# Altium schematic symbol library opo_general.SchLib: 49 symbols
Pins are listed as number, name and electrical type; pins without a type are passive.

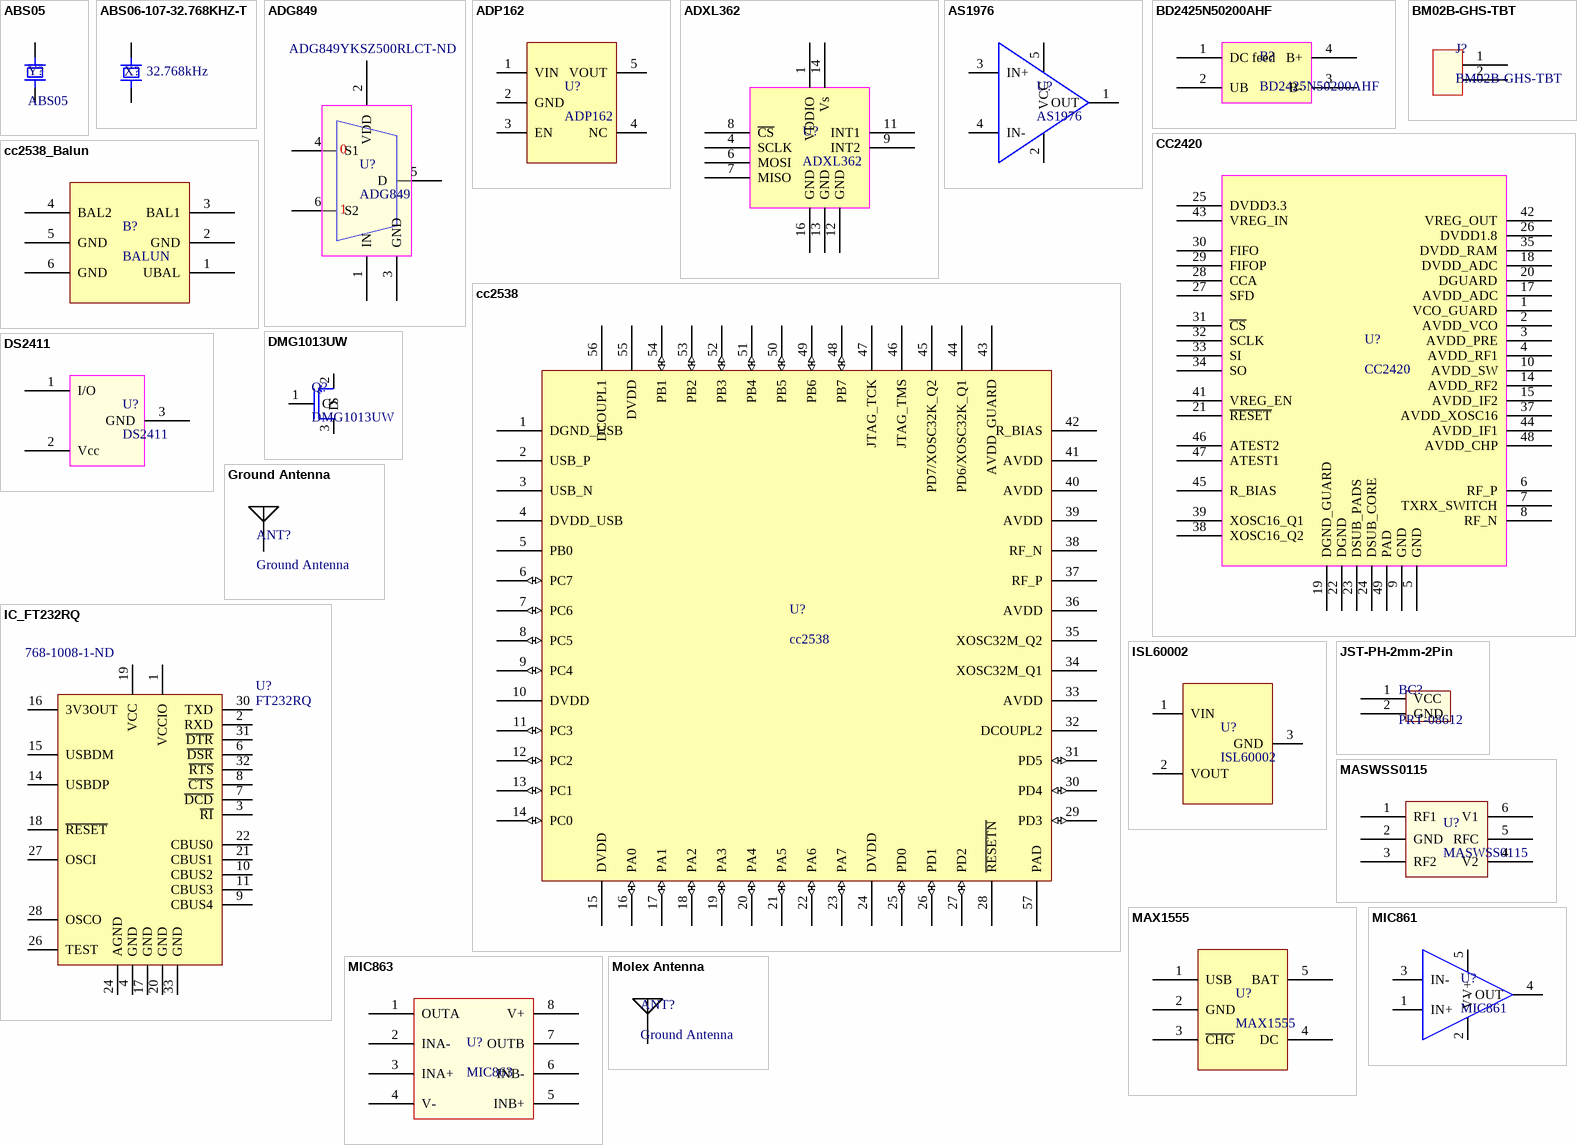
[diagram p0: symbols ABS05 to Molex Antenna]

## ABS05
designator Y?
32768 Hz SMD Low profile crystal; Supplier 1: Digi-Key; Supplier Part Number 1: 535-11899-1-ND
footprint ABS05 (ABS05 Crystal)
pins: 1, 2

## ABS06-107-32.768KHZ-T
designator X?, comment value 32.768kHz  (hidden comment: 32.768 kHz crystal)
32.768 0805 SMD crystal; Mfr: Abracon; Mfr Part Number: ABS06-107-32.768KHZ-T; Supplier 1: Digikey; Supplier Part Number 1: 535-12373-1-ND
footprint ABS06-107-32.768KHZ-T
pins: 1, 2

## ADG849
designator U?  Supplier Part Number 1: ADG849YKSZ500RLCT-ND
0.5 Ω SPDT/2:1 Mux in SC70; Supplier 1: Digi-Key
footprint SC70-6
pins: 1 IN, 2 VDD, 3 GND, 4 S1, 5 D, 6 S2
text: 0

## ADP162
designator U?
IC REG LDO 3.3V 0.15A TSOT23-5; Supplier 1: Digi-Key; Supplier Part Number 1: ADP162AUJZ-3.3-R7CT-ND
footprint TSOT23-5 (SOT23, 6-Leads, Body 3.0x2.9mm (max), Pitch 0.95mm, IPC Medium Density)
pins: 1 VIN, 2 GND, 3 EN, 4 NC, 5 VOUT

## ADXL362
designator U?
Micropower, 3-Axis, ±2 g/±4 g/±8 g  Digital Output MEMS Accelerometer; Supplier 1: Digi-Key; Supplier Part Number 1: ADXL362BCCZ-RL7CT-ND
footprint LGA_CC-16-4
pins: 1 VDDIO, 4 SCLK, 6 MOSI, 7 MISO, 8 ~{CS}, 9 INT2, 11 INT1, 12 GND, 13 GND, 14 Vs, 16 GND

## AS1976
designator U?
IC COMPARATOR PUSH/PULL SOT23-5; Supplier 1: Digi-Key; Supplier Part Number 1: AS1976-TCT-ND
footprint SOT23-5 (SOT23, 5-Leads, Body 2.9x1.6mm, Pitch 0.95mm, Lead Span 2.8mm, IPC High Density)
pins: 1 OUT, 2 VEE, 3 IN+, 4 IN-, 5 VCC

## BD2425N50200AHF
designator B?
Ultra Low Profile 0404 Balun   50Ω to 200Ω Balanced; Supplier 1: Digi-Key; Supplier Part Number 1: 1173-1063-1-ND
footprint BD2425N50200AHF
pins: 1 DC feed, 2 UB, 3 B-, 4 B+

## BM02B-GHS-TBT
designator J?
GH housing, 1.25 mm pitch, 2 positions; Supplier 1: Digi-Key; Supplier Part Number 1: 455-1578-1-ND
footprint JST GH series (JST GH series, 2 positions)
pins: 1, 2

## CC2420
designator U?
2.4 GHz IEEE 802.15.4 / ZigBee-ready RF Transceiver; Supplier 1: Digi-Key; Supplier Part Number 1: 296-19585-1-ND
footprint QFN50P700X700X100_HS-49N (QFN, 48-Leads, Body 7.00x7.00mm, Pitch 0.50mm, Thermal Pad 5.15x5.15mm, IPC Medium Density)
pins: 1 VCO_GUARD, 2 AVDD_VCO, 3 AVDD_PRE, 4 AVDD_RF1, 5 GND, 6 RF_P, 7 TXRX_SWITCH, 8 RF_N, 9 GND, 10 AVDD_SW, 14 AVDD_RF2, 15 AVDD_IF2, 17 AVDD_ADC, 18 DVDD_ADC, 19 DGND_GUARD, 20 DGUARD, 21 ~{RESET}, 22 DGND, 23 DSUB_PADS, 24 DSUB_CORE, 25 DVDD3.3, 26 DVDD1.8, 27 SFD, 28 CCA, 29 FIFOP, 30 FIFO, 31 ~{CS}, 32 SCLK, 33 SI, 34 SO, 35 DVDD_RAM, 37 AVDD_XOSC16, 38 XOSC16_Q2, 39 XOSC16_Q1, 41 VREG_EN, 42 VREG_OUT, 43 VREG_IN, 44 AVDD_IF1, 45 R_BIAS, 46 ATEST2, 47 ATEST1, 48 AVDD_CHP, 49 PAD

## cc2538
designator U?
cc2538 MCU/802.15.4 radio; Supplier 1: Digikey; Supplier Part Number 1: 296-35797-1-ND
footprint QFN50P800X800X100_HS-57N (QFN, 56-Leads, Body 8.00x8.00mm, Pitch 0.50mm, Thermal Pad 6.60x6.60mm, IPC Medium Density)
pins: 1 DGND_USB, 2 USB_P, 3 USB_N, 4 DVDD_USB, 5 PB0, 6 PC7 (io), 7 PC6 (io), 8 PC5 (io), 9 PC4 (io), 10 DVDD (power), 11 PC3 (io), 12 PC2 (io), 13 PC1 (io), 14 PC0 (io), 15 DVDD (power), 16 PA0 (io), 17 PA1 (io), 18 PA2 (io), 19 PA3 (io), 20 PA4 (io), 21 PA5 (io), 22 PA6 (io), 23 PA7 (io), 24 DVDD (power), 25 PD0 (io), 26 PD1 (io), 27 PD2 (io), 28 ~{RESETN}, 29 PD3 (io), 30 PD4 (io), 31 PD5 (io), 32 DCOUPL2 (power), 33 AVDD (power), 34 XOSC32M_Q1, 35 XOSC32M_Q2, 36 AVDD (power), 37 RF_P, 38 RF_N, 39 AVDD (power), 40 AVDD (power), 41 AVDD (power), 42 R_BIAS, 43 AVDD_GUARD (power), 44 PD6/XOSC32K_Q1, 45 PD7/XOSC32K_Q2, 46 JTAG_TMS, 47 JTAG_TCK, 48 PB7 (io), 49 PB6 (io), 50 PB5 (io), 51 PB4 (io), 52 PB3 (io), 53 PB2 (io), 54 PB1 (io), 55 DVDD (power), 56 DCOUPL1 (power), 57 PAD

## cc2538_Balun
designator B?, comment BALUN
Johanson CC253X Balun; Mfr: Johanson Technology; Mfr Part Number: 2450BM15A0002; Supplier 1: Digikey; Supplier Part Number 1: 712-1536-1-ND
footprint 2450BM15A0002 (Chip Array, Flat, 6-Leads, Pitch 0.65mm,  Body 2.00x1.25mm,  IPC Medium Density)
pins: 1 UBAL, 2 GND, 3 BAL1, 4 BAL2, 5 GND, 6 GND

## DMG1013UW
designator Q?
P-CHANNEL ENHANCEMENT MODE MOSFET; Supplier 1: Digi-Key; Supplier Part Number 1: DMG1013UW-7DICT-ND
footprint SC70-3
pins: 1 G, 2 S, 3 D

## DS2411
designator U?
Silicon Serial Number with VCC Input; Supplier 1: Digi-Key; Supplier Part Number 1: DS2411R+CT-ND
footprint SOT23-3N (SOT23, 3-Leads, Body 2.9x1.3mm, Pitch 0.95mm, Lead Span 2.5mm, IPC Medium Density)
pins: 1 I/O, 2 Vcc, 3 GND

## Ground Antenna
designator ANT?
2.4GHz Surface Mount Device (SMD) On Ground Antenna, 50 Ohms; Supplier 1: RichardsonRFPD; Supplier Part Number 1: FR05-S1-N-0102B
footprint Chip Antenna (FR05-S1-N-0-102)
pins: 1

## IC_FT232RQ
designator U?, comment FT232RQ  Supplier Part Number 1: 768-1008-1-ND
FT232R USB UART; Manufacturer: *; Note: *; ManufacturerPartNo: *; Supplier 1: Digi-Key
footprint QFN-32
pins: 1 VCCIO, 2 RXD, 3 ~{RI}, 4 GND, 6 ~{DSR}, 7 ~{DCD}, 8 ~{CTS}, 9 CBUS4, 10 CBUS2, 11 CBUS3, 14 USBDP, 15 USBDM, 16 3V3OUT, 17 GND, 18 ~{RESET}, 19 VCC, 20 GND, 21 CBUS1, 22 CBUS0, 24 AGND, 26 TEST, 27 OSCI, 28 OSCO, 30 TXD, 31 ~{DTR}, 32 ~{RTS}, 33 GND
2 alternate drawings of the same symbol

## ISL60002
designator U?
IC VREF SERIES PREC SOT-23-3; Supplier 1: Digi-Key; Supplier Part Number 1: ISL60002DIH310Z-TKCT-ND
footprint SOT23-3N (SOT23, 3-Leads, Body 2.9x1.3mm, Pitch 0.95mm, Lead Span 2.5mm, IPC Medium Density)
pins: 1 VIN, 2 VOUT, 3 GND

## JST-PH-2mm-2Pin
designator BC?, comment PRT-08612
2-pin JST-PH 2mm Battery Connector; Supplier 1: Sparkfun; Supplier Part Number 1: PRT-08612
footprint JST PH 2PIN
pins: 1 VCC, 2 GND, 3 hidden, 4 hidden

## MASWSS0115
designator U?
Rf Switch; Mfr: M/A-Com; Mfr Part Number: MASWSS0115TR-3000; Supplier 1: Digikey; Supplier Part Number 1: 1465-1373-1-ND
footprint SC70-6
pins: 1 RF1, 2 GND, 3 RF2, 4 V2, 5 RFC, 6 V1

## MAX1555
designator U?
3 Dual-Input USB/AC Adapter 1-Cell Li+  Battery Chargers; Supplier 1: Digi-Key; Supplier Part Number 1: MAX1555EZK+TTR-ND
footprint SOT23-5 (SOT23, 5-Leads, Body 2.9x1.6mm, Pitch 0.95mm, Lead Span 2.8mm, IPC High Density)
pins: 1 USB, 2 GND, 3 ~{CHG}, 4 DC, 5 BAT

## MIC861
designator U?
IC OPAMP 400KHZ 2.7V ULT LP SC70; Supplier 1: Digi-Key; Supplier Part Number 1: 576-2932-1-ND
footprint SC70-5
pins: 1 IN+, 2 V-, 3 IN-, 4 OUT, 5 V+

## MIC863
designator U?
Dual Ultra Low Power Op Amp in SOT23-8; Supplier 1: Digi-Key; Supplier Part Number 1: 576-2934-1-ND
footprint TSOP65P280X145-8N (TSOP, 8-Leads, Body 2.90x1.60mm, Pitch 0.65mm, IPC Medium Density)
pins: 1 OUTA, 2 INA-, 3 INA+, 4 V-, 5 INB+, 6 INB-, 7 OUTB, 8 V+

## Molex Antenna
designator ANT?, comment Ground Antenna
Molex 2.4 GHz SMD On-Ground Antenna; Supplier 1: Digikey; Supplier Part Number 1: WM4893CT-ND
footprint SMD Ground Antenna (0479480001)
pins: 1

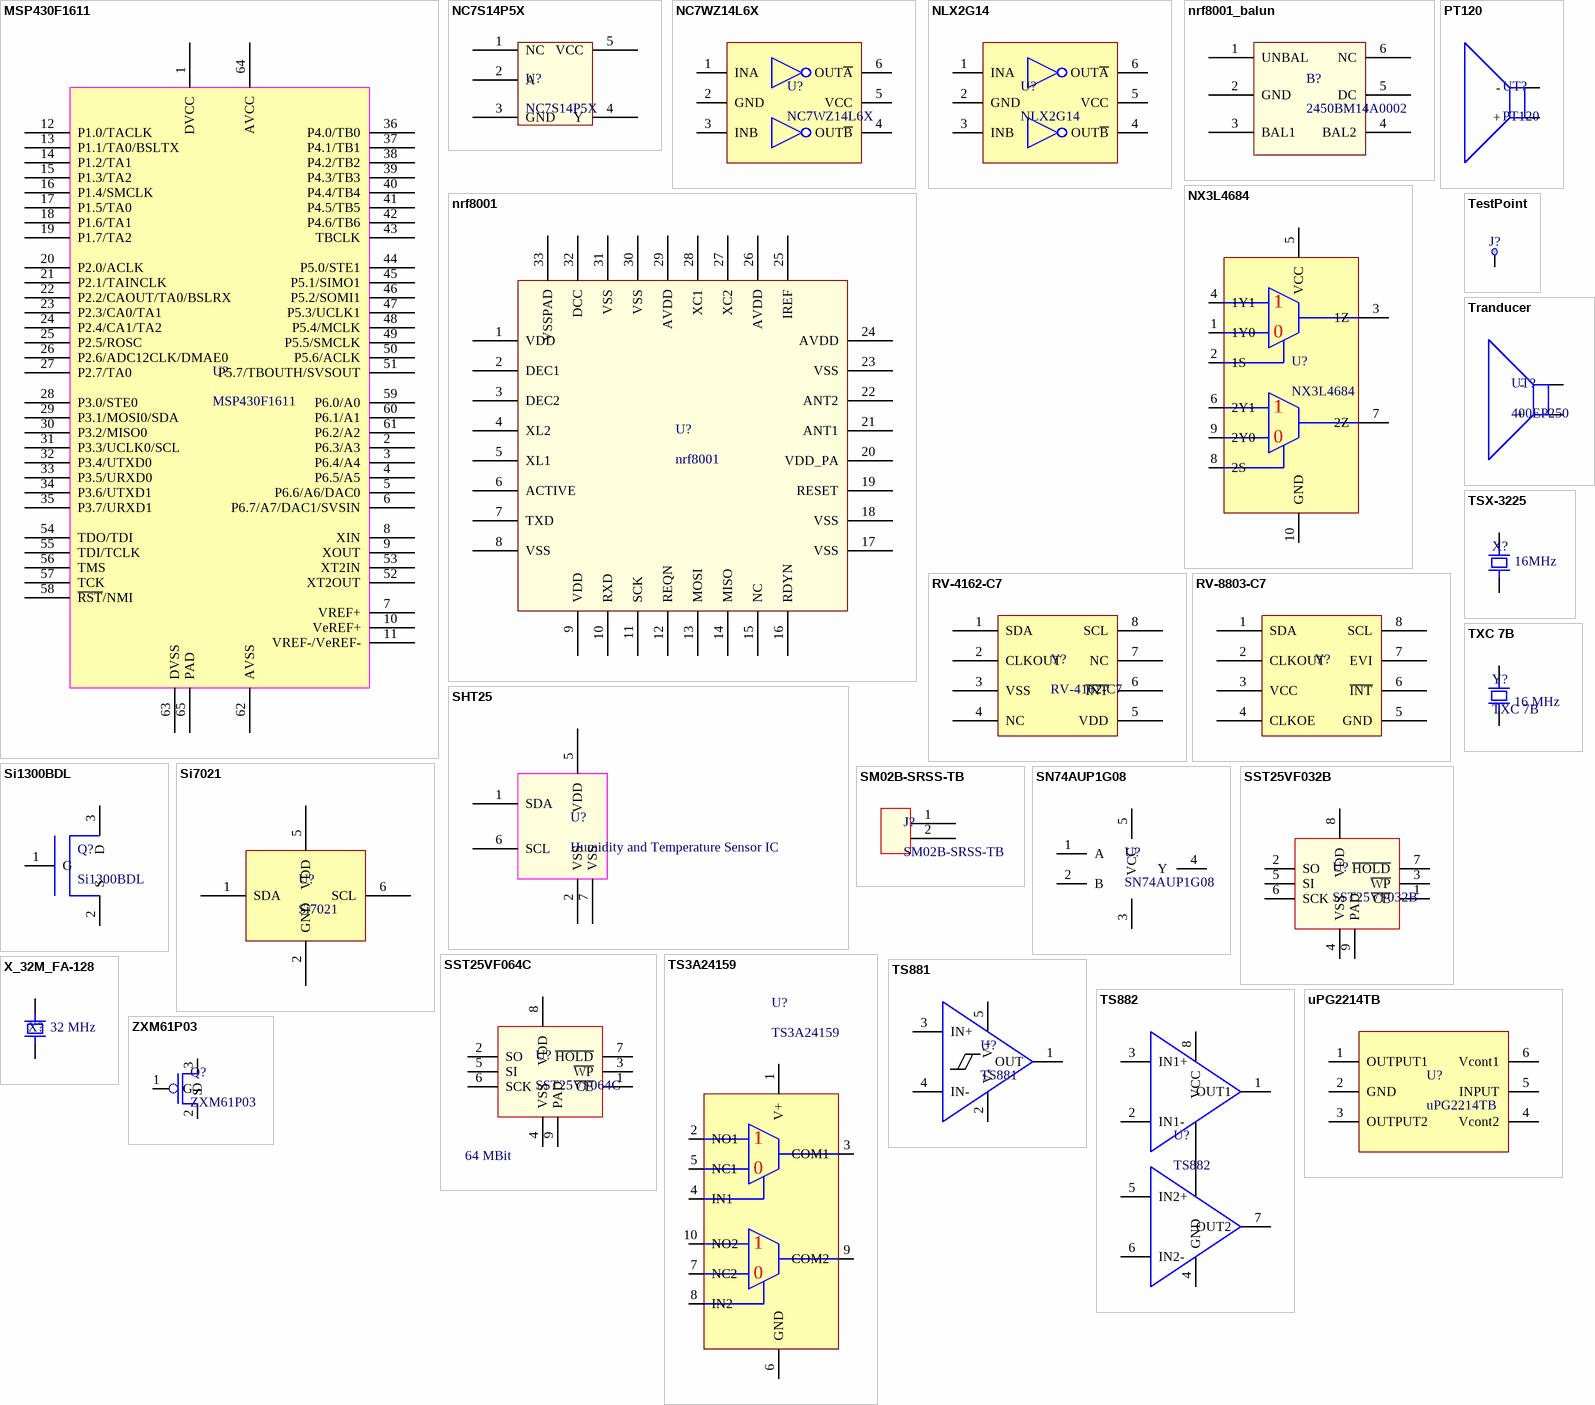
[diagram p1: symbols MSP430F1611 to ZXM61P03]

## MSP430F1611
designator U?
MIXED SIGNAL MICROCONTROLLER; Supplier 1: Digi-Key; Supplier Part Number 1: 296-18102-1-ND
footprint QFN50P900X900X90_HS-65N (QFN, 64-Leads, Body 9.00x9.00mm, Pitch 0.50mm, Thermal Pad 4.70x4.70mm, IPC Medium Density)
pins: 1 DVCC, 2 P6.3/A3, 3 P6.4/A4, 4 P6.5/A5, 5 P6.6/A6/DAC0, 6 P6.7/A7/DAC1/SVSIN, 7 VREF+, 8 XIN, 9 XOUT, 10 VeREF+, 11 VREF-/VeREF-, 12 P1.0/TACLK, 13 P1.1/TA0/BSLTX, 14 P1.2/TA1, 15 P1.3/TA2, 16 P1.4/SMCLK, 17 P1.5/TA0, 18 P1.6/TA1, 19 P1.7/TA2, 20 P2.0/ACLK, 21 P2.1/TAINCLK, 22 P2.2/CAOUT/TA0/BSLRX, 23 P2.3/CA0/TA1, 24 P2.4/CA1/TA2, 25 P2.5/ROSC, 26 P2.6/ADC12CLK/DMAE0, 27 P2.7/TA0, 28 P3.0/STE0, 29 P3.1/MOSI0/SDA, 30 P3.2/MISO0, 31 P3.3/UCLK0/SCL, 32 P3.4/UTXD0, 33 P3.5/URXD0, 34 P3.6/UTXD1, 35 P3.7/URXD1, 36 P4.0/TB0, 37 P4.1/TB1, 38 P4.2/TB2, 39 P4.3/TB3, 40 P4.4/TB4, 41 P4.5/TB5, 42 P4.6/TB6, 43 TBCLK, 44 P5.0/STE1, 45 P5.1/SIMO1, 46 P5.2/SOMI1, 47 P5.3/UCLK1, 48 P5.4/MCLK, 49 P5.5/SMCLK, 50 P5.6/ACLK, 51 P5.7/TBOUTH/SVSOUT, 52 XT2OUT, 53 XT2IN, 54 TDO/TDI, 55 TDI/TCLK, 56 TMS, 57 TCK, 58 ~{RST}/NMI, 59 P6.0/A0, 60 P6.1/A1, 61 P6.2/A2, 62 AVSS, 63 DVSS, 64 AVCC, 65 PAD

## NC7S14P5X
designator U?
Single Inverter; Mfr: Fairchild; Mfr Part Number: NC7S14P5X; Supplier 1: Digikey; Supplier Part Number 1: NC7S14P5XDKR-ND
footprint SC70-5
pins: 1 NC, 2 A, 3 GND, 4 Y, 5 VCC

## NC7WZ14L6X
designator U?
1 uA supply current, 50 mA output current, Dual inverter; Mfr: Fairchild Semiconductor; Supplier 1: Digikey; Supplier Part Number 1: NC7WZ14L6XFSCT-ND; Mfr Part Number: NC7WZ14L6X
footprint NC7WZ14L6X
pins: 1 INA, 2 GND, 3 INB, 4 OUT~{B}, 5 VCC, 6 OUT~{A}

## NLX2G14
designator U?
IC INVERTER DUAL SCHMTRIG ULLGA6; Supplier 1: Mouser; Supplier Part Number 1: 863-NLX2G14BMX1TCG
footprint ULLGA6, 1.2 x 1.0, .4P
pins: 1 INA, 2 GND, 3 INB, 4 OUT~{B}, 5 VCC, 6 OUT~{A}

## nrf8001
designator U?
nrf8001 Bluetooth SPI module; Supplier 1: Digikey; Supplier Part Number 1: 1490-1026-ND
footprint QFN50P500X500X90_HS-33N (QFN, 32-Leads, Body 5.00x5.00mm, Pitch 0.50mm, Thermal Pad 3.60x3.60mm, IPC Medium Density)
pins: 1 VDD, 2 DEC1, 3 DEC2, 4 XL2, 5 XL1, 6 ACTIVE, 7 TXD, 8 VSS, 9 VDD, 10 RXD, 11 SCK, 12 REQN, 13 MOSI, 14 MISO, 15 NC, 16 RDYN, 17 VSS, 18 VSS, 19 RESET, 20 VDD_PA, 21 ANT1, 22 ANT2, 23 VSS, 24 AVDD, 25 IREF, 26 AVDD, 27 XC2, 28 XC1, 29 AVDD, 30 VSS, 31 VSS, 32 DCC, 33 VSSPAD

## nrf8001_balun
designator B?, comment 2450BM14A0002
nrf8001 chip balun; Mfr: Johanson; Mfr Part Number: 2450BM14A0002; Supplier 1: Digikey; Supplier Part Number 1: 712-1574-1-ND
footprint 2450BM14A0002
pins: 1 UNBAL, 2 GND, 3 BAL1, 4 BAL2, 5 DC, 6 NC

## NX3L4684
designator U?
IC ANALOG SWITCH SPDT 10XQFN; Supplier 1: Digi-Key; Supplier Part Number 1: 568-5564-1-ND
footprint QFN50P155X200X13-10N (QFN, 10-Leads, Body 2.1x1.6mm (max), Pitch 0.50mm, IPC Medium Density)
pins: 1 1Y0, 2 1S, 3 1Z, 4 1Y1, 5 VCC, 6 2Y1, 7 2Z, 8 2S, 9 2Y0, 10 GND
text: 0

## PT120
designator UT?
Ultrasonic piezoelectric transceiver, 40 khz,; Supplier 1: Newark; Supplier Part Number 1: 98K9165
footprint PT120
pins: 1 -, 2 +

## RV-4162-C7
designator Y?
Real Time Clock Module with I2C Bus; Supplier 1: Newark; Supplier Part Number 1: 09X0517
footprint RV4162 (RTC)
pins: 1 SDA, 2 CLKOUT, 3 VSS, 4 NC, 5 VDD, 6 ~{INT}, 7 NC, 8 SCL

## RV-8803-C7
designator Y?  (value not drawn)
Temperature compensated RTC; Supplier 1: Dove; Supplier 1 Part Number: DOV066890
footprint RV4162 (RTC)
pins: 1 SDA, 2 CLKOUT, 3 VCC, 4 CLKOE, 5 GND, 6 ~{INT}, 7 EVI, 8 SCL

## SHT25
designator U?, comment Humidity and Temperature Sensor IC
SHT25; Supplier 1: Newark; Supplier Part Number 1: 20T1173
footprint DFN6
pins: 1 SDA, 2 VSS, 5 VDD, 6 SCL, 7 VSS

## Si1300BDL
designator Q?
MOSFET N-CH D-S 20V SC-70-3; Supplier 1: Digi-Key; Supplier Part Number 1: SI1300BDL-T1-GE3CT-ND
footprint SC70-3
footprint SC70-3
pins: 1 G, 2 S, 3 D

## Si7021
designator U?
Temperature and Humidity Sensor; Supplier 1: Digikey; Supplier Part Number 1: 336-2542-1-ND
footprint DFN6-Si7021
pins: 1 SDA, 2 GND, 3 DNC hidden, 4 DNC hidden, 5 VDD, 6 SCL, 7 DNC hidden

## SM02B-SRSS-TB
designator J?
CONN HEADER SH 2POS SIDE 1MM TIN; Supplier 1: Digi-Key; Supplier Part Number 1: 455-1802-1-ND
footprint JST SH series (JST SH series, 2 positions)
pins: 1, 2

## SN74AUP1G08
designator U?
IC SNGL 2IN POS-AND GATE SC70-5; Supplier 1: Digi-Key; Supplier Part Number 1: 296-19075-1-ND
footprint SC70-5
pins: 1 A, 2 B, 3 GND, 4 Y, 5 VCC

## SST25VF032B
designator U?
32 Mbit SPI Serial Flash; Supplier 1: Digi-Key; Supplier Part Number 1: SST25VF032B-80-4I-QAE-ND
footprint WSON (QFN, 8-Leads, Body 6.00x5.00mm, Pitch 1.27mm, Thermal Pad 3.40x4.00mm, IPC Medium Density)
pins: 1 ~{CE}, 2 SO, 3 ~{WP}, 4 VSS, 5 SI, 6 SCK, 7 ~{HOLD}, 8 VDD, 9 PAD

## SST25VF064C
designator U?  Capacity: 64 MBit
64 Mbit SPI Serial Dual I/O Flash; Supplier 1: Digi-Key; Supplier Part Number 1: SST25VF064C-80-4I-Q2AE-CT-ND
footprint WSON (QFN, 8-Leads, Body 6.00x5.00mm, Pitch 1.27mm, Thermal Pad 3.40x4.00mm, IPC Medium Density)
pins: 1 ~{CE}, 2 SO, 3 ~{WP}, 4 VSS, 5 SI, 6 SCK, 7 ~{HOLD}, 8 VDD, 9 PAD

## TestPoint
designator J?, comment 5004  (value not drawn)
TEST POINT PC MINI .040"D YELLOW; Supplier 1: Digi-Key; Supplier Part Number 1: 5004K-ND; datasheet: http://mail.keyelco.com/ENG._DEPT/PDF%20CAT%20NO%20Drawings/5004.pdf
footprint TestPoint
footprint TestPoint
pins: 1 TB

## Tranducer
designator UT?, comment 400EP250
Air Ultrasounic Ceramic Transducers; Supplier 1: Digi-Key; Supplier Part Number 1: ED90088-ND
footprint Transducer recepticle (Transducer with Pin Recepticle)
pins: 1 -, 2 +

## TS3A24159
designator U?
DUAL-CHANNEL 2:1 MULTIPLEXER/DEMULTIPLEXER; Supplier 1: Digi-Key; Supplier Part Number 1: 296-21913-1-ND
footprint TSSOP50P490X110-10N (TSSOP, 10-Leads, Body 3.1x3.1mm (max), Pitch 0.50mm, IPC Medium Density)
pins: 1 V+, 2 NO1, 3 COM1, 4 IN1, 5 NC1, 6 GND, 7 NC2, 8 IN2, 9 COM2, 10 NO2
text: 0

## TS881
designator U?
Rail-to-rail 1.1 V nanopower comparator; Supplier 1: Digi-Key; Supplier Part Number 1: 497-13217-1-ND
footprint SC70-5
pins: 1 OUT, 2 V-, 3 IN+, 4 IN-, 5 V+

## TS882
designator U?
Ultra Low Power Dual Comparator; Supplier 1: Digikey; Supplier Part Number 1: 497-14073-1-ND; Supplier 2: Digikey; Supplier 2 Part Number: 497-13800-1-ND
footprint SO8 (SOP, 8-Leads, Body 4.90x3.90mm, Pitch 1.27mm, IPC Medium Density)
pins: 1 OUT1, 2 IN1-, 3 IN1+, 4 GND, 5 IN2+, 6 IN2-, 7 OUT2, 8 VCC

## TSX-3225
designator X?, comment value 16MHz  (hidden comment: 16MHz Crystal)
3.2x2.5mm 16MHz SMD crystal; Mfr: Epson; Mfr part Number: TSX-3225 16.0000MF09Z-AC3; Supplier 1: Digikey; Supplier Part Number 1: SER3628CT-ND
footprint TSX-3225
pins: 1, 2 hidden to GND, 3, 4 hidden to GND

## TXC 7B
designator Y?  frequency: 16 MHz
5 x 3.2 mm SMD SEAM CRYSTAL 7B SERIES; Load capatance: 18 pF; ESR: 40; stability: 30 ppm; Supplier 1: Digi-Key; Supplier Part Number 1: 887-1104-1-ND
footprint TXC 7B (TXC 7B series)
pins: 1, 3

## uPG2214TB
designator U?
GaAs Integrated Circuit for L, S-Band SPDT Switch; Supplier 1: Digi-Key; Supplier Part Number 1: UPG2214TB-E4-ACT-ND
footprint minimold-6 (SOTFL, 6-Leads, Body 2.00x2.10mm, Pitch 0.65mm, IPC Medium Density)
footprint minimold-6 (SOTFL, 6-Leads, Body 2.00x2.10mm, Pitch 0.65mm, IPC Medium Density)
pins: 1 OUTPUT1 (power), 2 GND (power), 3 OUTPUT2 (power), 4 Vcont2 (power), 5 INPUT (power), 6 Vcont1 (power)

## X_32M_FA-128
designator X?, comment value 32 MHz  (hidden comment: 32 MHz Crystal)
32MHz, 10ppm, 10pF, 60 Ohm; Mfr: Epson; Mfr Part Number: FA-128 32.0000MF20X-K3; Supplier 1: Digikey; Supplier Part Number 1: SER3800CT-ND
footprint FA-128
pins: 1, 3

## ZXM61P03
designator Q?
30V P-CHANNEL ENHANCEMENT MODE MOSFET; Supplier 1: Digi-Key; Supplier Part Number 1: ZXM61P03FCT-ND
footprint SOT23-3N (SOT23, 3-Leads, Body 2.9x1.3mm, Pitch 0.95mm, Lead Span 2.5mm, IPC Medium Density)
pins: 1 G, 2 S, 3 D